# EAGLE library part LCD12864_KS0108 (library DodoLcd)
LCD 128 x 64 controller KS0108
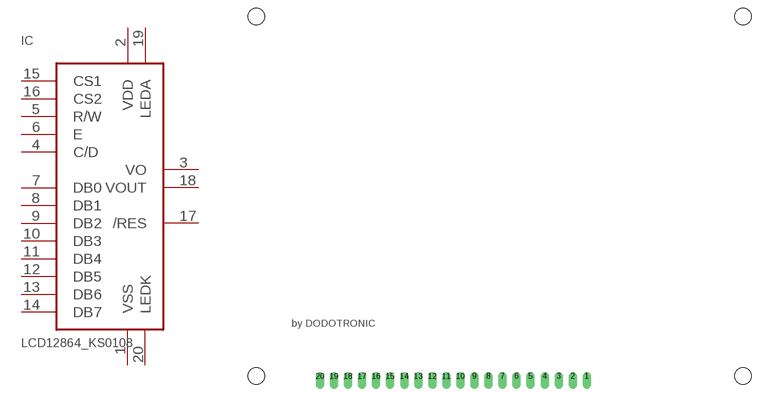
[diagram p3: symbol with the pads of RG12864; footprint RG12864]

Designator prefix IC

## LCD12864_KS0108  [RG12864]
1  VSS
2  VDD
3  VO
4  C/D
5  R/W
6  E
7  DB0
8  DB1
9  DB2
10  DB3
11  DB4
12  DB5
13  DB6
14  DB7
15  CS1
16  CS2
17  /RES
18  VOUT
19  LEDA
20  LEDK

## Footprint RG12864 (pad centres in mm)
display lcd 128 x 64 controllore KS0108
drill 1 offset: 1 62.26,2.5; 2 59.72,2.5; 3 57.18,2.5; 4 54.64,2.5; 5 52.1,2.5; 6 49.56,2.5; 7 47.02,2.5; 8 44.48,2.5; 9 41.94,2.5; 10 39.4,2.5; 11 36.86,2.5; 12 34.32,2.5; 13 31.78,2.5; 14 29.24,2.5; 15 26.7,2.5; 16 24.16,2.5; 17 21.62,2.5; 18 19.08,2.5; 19 16.54,2.5; 20 14,2.5
hole 3 at 2.5,2.5
hole 3 at 90.5,2.5
hole 3 at 90.5,67.5
hole 3 at 2.5,67.5